# Altium footprint library 528521270.PcbLib: 1 footprints
Each footprint in its own frame and in the unit in brackets; x right, y up, seen from the top. Pads: shape width x height; smd on the part's side, far side on the other; paste and mask are expansions set on the pad; w line width, h text height; cw(c..) or ccw(c..) is an arc to the next point about the centre after c.
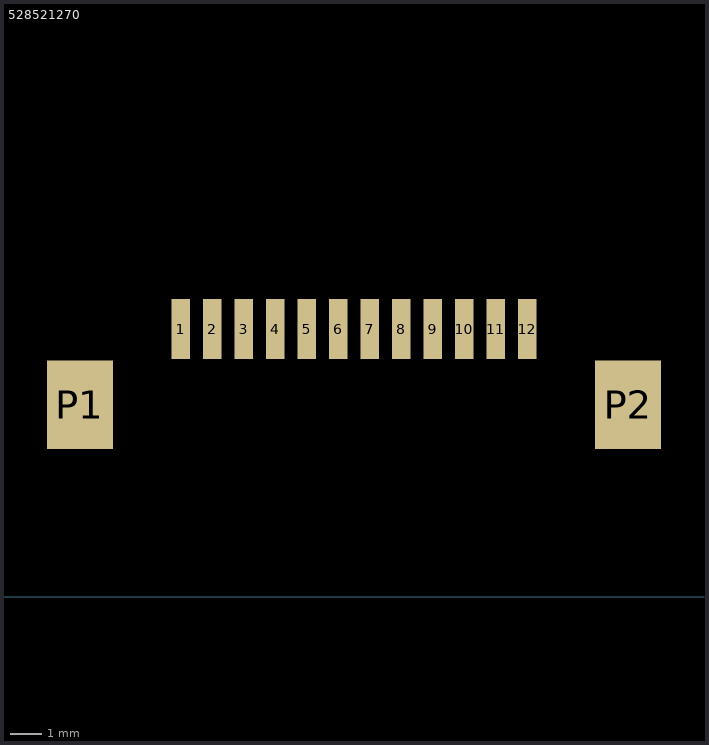
[diagram p0: the footprint, top view; thin cyan lines are the x and y axes]

## 528521270 [mm]
pads (14):
  rect 0.6x1.9 smd: 1(6,8.5) 2(7,8.5) 3(8,8.5) 4(9,8.5) 5(10,8.5) 6(11,8.5) 7(12,8.5) 8(13,8.5) 9(14,8.5) 10(15,8.5) 11(16,8.5) 12(17,8.5)
  rect 2.1x2.8 smd: P1(2.8,6.1) P2(20.2,6.1)
3D body "0528521270.stp": height 3.1, standoff 0, extent 2.35,2.4 20.65,9.2